# Altium schematic symbol library IMU BNO080.Schlib: 1 symbol
Pins are listed as number, name and electrical type; pins without a type are passive.

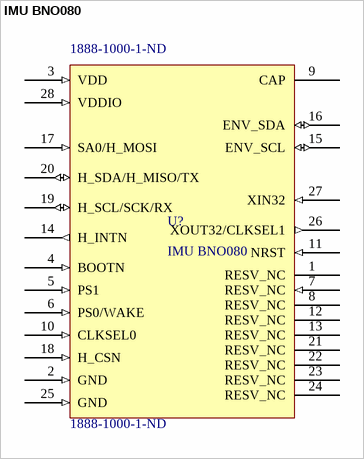
[diagram p0: symbol IMU BNO080]

## IMU BNO080
designator U?  Supplier Part Number 1: 1888-1000-1-ND
ACCEL/GYRO/MAG I2C 32BIT; Manufacturer: Hillcrest Laboratories; Description: IMU ACCEL/GYRO/MAG I2C 32BIT; Sensor Type: Accelerometer,Gyroscope,Magnetometer; Output Type: SPI,I2C; Supplier 1: Digi-Key; Manufacturer Part Number: BNO080; Stock 1: 10778; Pricing 1: 1=13.48, 5=11.826, 10=10.643, 25=9.46, 50=8.7506, 100=7.568, 500=7.095, 1000=6.622 (USD); Mount: Surface Mount; Case/Package: LGA; Min Operating Temperature: -40°C; Max Operating Temperature: 85°C; Packaging: Tape and Reel
footprint 1888-1000-1-ND
pins: 1 RESV_NC, 2 GND (in), 3 VDD (in), 4 BOOTN (in), 5 PS1 (in), 6 PS0/WAKE (in), 7 RESV_NC (in), 8 RESV_NC, 9 CAP, 10 CLKSEL0 (in), 11 NRST (in), 12 RESV_NC, 13 RESV_NC, 14 H_INTN (out), 15 ENV_SCL (io), 16 ENV_SDA (io), 17 SA0/H_MOSI (in), 18 H_CSN (in), 19 H_SCL/SCK/RX (io), 20 H_SDA/H_MISO/TX (io), 21 RESV_NC, 22 RESV_NC, 23 RESV_NC, 24 RESV_NC, 25 GND (in), 26 XOUT32/CLKSEL1 (out), 27 XIN32 (in), 28 VDDIO (in)